# Altium footprint library CO2_Metar_PCB.PcbLib: 15 footprints
Each footprint in its own frame and in the unit in brackets; x right, y up, seen from the top. Pads: shape width x height; smd on the part's side, far side on the other; paste and mask are expansions set on the pad; w line width, h text height; cw(c..) or ccw(c..) is an arc to the next point about the centre after c.
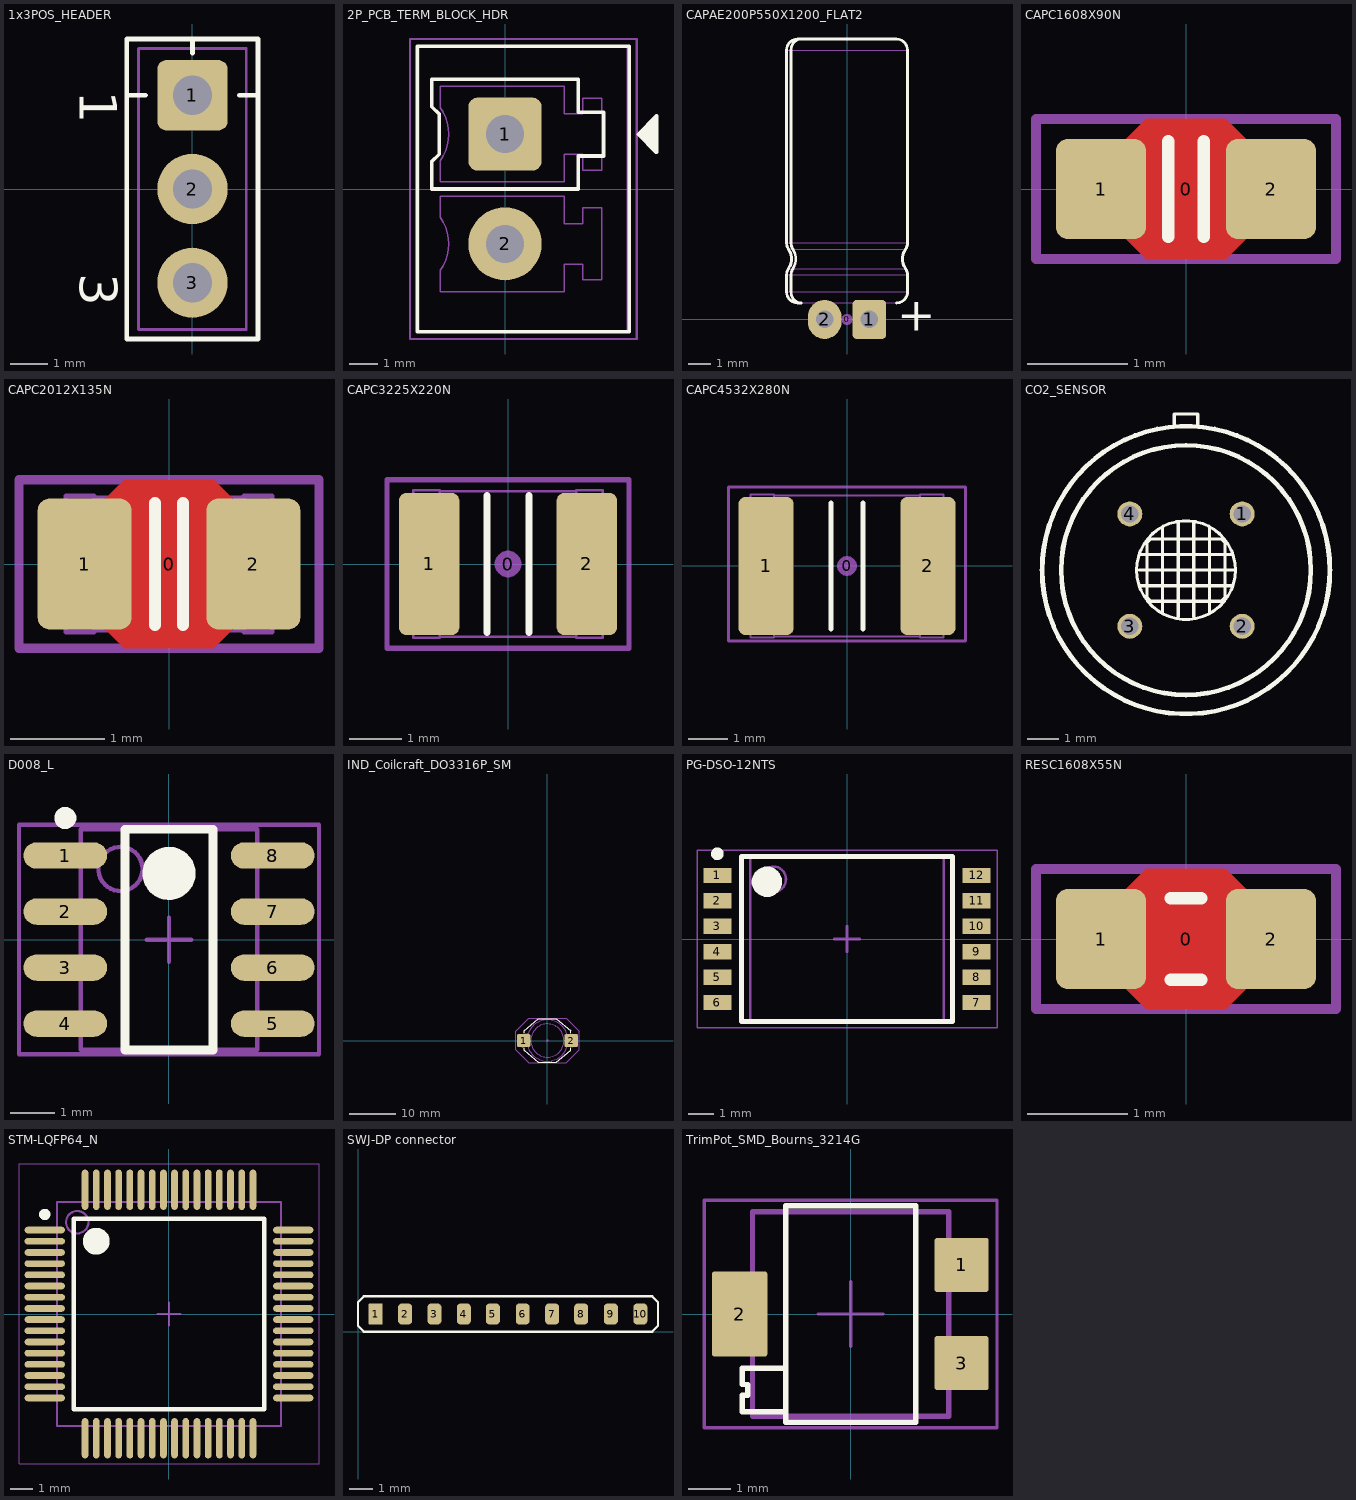
[diagram p0: the footprints below, top view; thin cyan lines are the x and y axes]

## 1x3POS_HEADER [mil]
pads (3):
  rrect25% 75x75 hole 42: 1(0,100)
  round 75 hole 42: 2(0,0) 3(0,-100)
Top Overlay:
  lines w5: -70,100 -50,100 ; 0,145 0,160 ; 50,100 70,100 ; -70,-160 -70,160 70,160 70,-160 -70,-160
  text "3" at -120,-90 h40
  text "1" at -120,105 h40
Mechanical 13:
  lines w3: -57.47,-150 -57.47,150 57.49,150 57.49,-150 -57.47,-150
3D body "PinHeaderX3.stp": height 335.04, standoff -144.88, extent -57.47,-150 57.49,150

## 2P_PCB_TERM_BLOCK_HDR [mil]
pads (2):
  rrect25% 100x100 hole 52: 1(0,75)
  round 100 hole 52: 2(0,-75)
Top Overlay:
  region: 182,75 207,100 207,50
  lines w5: -120,-195.08 -120,195.08 ; -120,-195 170,-195 ; -120,195 170,195 ; 170,-195.08 170,195.08 ; -100,0 -100,37.5 -90,47.5 -90,102.5 -100,112.5 -100,150 100,150 100,105 135,105 135,45 100,45 100,0 -100,0 ; 182,75 207,50 207,100 182,75
Mechanical 13:
  circle w1.97: c0,-75 r35.43
  circle w1.97: c0,75 r35.43
  circle w1.97: c0,75 r43.31
  circle w1.97: c0,-75 r43.31
  lines w1.97: -118.11,-195.08 167.32,-195.08 167.32,195.08 -118.11,195.08 -118.11,-195.08 ; -88.58,-140.16 80.71,-140.16 80.71,-102.56 106.3,-102.56 106.3,-124.21 131.89,-124.21 131.89,-25.79 106.3,-25.79 106.3,-47.44 80.71,-47.44 80.71,-9.84 -88.58,-9.84 -88.58,-38.92 cw(c-137.8,-75) -88.58,-111.08 -88.58,-140.16 ; -88.58,9.84 80.71,9.84 80.71,47.44 106.3,47.44 106.3,25.79 131.89,25.79 131.89,124.21 106.3,124.21 106.3,102.56 80.71,102.56 80.71,140.16 -88.58,140.16 -88.58,111.08 cw(c-137.8,75) -88.58,38.92 -88.58,9.84 ; -15.75,-90.75 -15.75,-59.25 15.75,-59.25 15.75,-90.75 -15.75,-90.75 ; -15.75,59.25 -15.75,90.75 15.75,90.75 15.75,59.25 -15.75,59.25
Mechanical 15:
  lines w3: -130,-205 -130,205 180,205 180,-205 -130,-205
3D body "CONN HEADER TE 2P.STEP": height 362.2, standoff -133.86, extent -118.1,-195.07 167.33,195.08

## CAPAE200P550X1200_FLAT2 [mil]
pads (3):
  round 20 on Mech15: 0(0,0)
  rrect25% 60x70 hole 31.5: 1(40,0)
  oval 60x70 hole 31.5: 2(-40,0)
Top Overlay:
  lines w5: -82.99,29.57 -88.58,29.57 cw(c-88.58,49.25) -108.27,49.25 -108.27,79.64 cw(c-88.58,79.64) -104.76,90.86 ccw(c-129.92,108.31) -104.76,125.76 cw(c-88.58,136.98) -108.27,136.98 -108.27,482.32 cw(c-88.58,482.32) -88.58,502.01 -82.99,502.01 ; -81.84,29.53 cw(c-81.06,48.53) -100.06,49.25 -100.06,79.64 cw(c-79.2,79.7) -96.81,90.88 ccw(c-124.34,108.31) -96.81,125.74 cw(c-79.2,136.92) -100.06,136.98 -100.06,482.32 cw(c-81.06,483.05) -81.84,502.05 88.58,502.05 cw(c88.58,482.32) 108.31,482.32 108.31,136.98 cw(c88.58,136.98) 104.79,125.74 ccw(c129.92,108.31) 104.79,90.88 cw(c88.58,79.64) 108.31,79.64 108.31,49.25 cw(c88.58,49.25) 88.58,29.53
  text "+" at 90,-20 h60
Mechanical 13:
  lines w1.97: -82.99,29.57 -88.58,29.57 cw(c-88.58,49.25) -108.27,49.25 ; -82.99,502.01 -88.58,502.01 ccw(c-88.58,482.32) -108.27,482.32 ; -49.21,19.68 -29.53,19.68 ; -49.21,29.53 -49.21,0 ccw(c-39.37,0) -29.53,0 -29.53,29.53 ; 29.53,19.68 49.21,19.68 ; 29.53,29.53 29.53,0 ccw(c39.37,0) 49.21,0 49.21,29.53 ; -108.27,49.25 108.31,49.25 ; -108.27,49.25 -108.27,79.64 ; -108.27,79.64 cw(c-88.58,79.64) -104.76,90.86 ; -108.27,79.64 108.31,79.64 ; -108.27,136.98 ccw(c-88.58,136.98) -104.76,125.76 ; -108.27,136.98 108.31,136.98 ; -108.27,136.98 -108.27,482.32 ; -108.27,482.32 108.31,482.32 ; -104.76,90.86 ccw(c-129.92,108.31) -104.76,125.76 ; -104.76,90.86 -96.81,90.88 ; -104.76,125.76 -96.81,125.74 ; -96.81,90.88 ccw(c-124.34,108.31) -96.81,125.74 ; -96.81,90.88 ccw(c-79.2,79.7) -100.06,79.64 -100.06,49.25 ccw(c-81.06,48.53) -81.84,29.53 88.58,29.53 ccw(c88.58,49.25) 108.31,49.25 ; -96.81,90.88 104.79,90.88 ; -96.81,125.74 cw(c-79.2,136.92) -100.06,136.98 -100.06,482.32 cw(c-81.06,483.05) -81.84,502.05 88.58,502.05 cw(c88.58,482.32) 108.31,482.32 ; -96.81,125.74 104.79,125.74 ; 104.79,90.88 cw(c129.92,108.31) 104.79,125.74 ; 104.79,90.88 cw(c88.58,79.64) 108.31,79.64 ; 104.79,125.74 ccw(c88.58,136.98) 108.31,136.98 ; 108.31,49.25 108.31,79.64 ; 108.31,136.98 108.31,482.32
3D body "CAPAE200P550X1200_FLAT2.STEP": height 215.69, standoff -70, extent -107.33,-9.82 107.39,502.05

## CAPC1608X90N [mm]
pads (3):
  round 0.254 on Mech15: 0(0,0)
  rrect25% 0.9x1 smd: 1(-0.85,0) 2(0.85,0)
Top Layer:
  pour cut-out: -0.6,0.5 -0.4,0.7 0.4,0.7 0.6,0.5 0.6,-0.5 0.4,-0.7 -0.4,-0.7 -0.6,-0.5
Top Overlay:
  lines w0.127: -0.178,-0.476 -0.178,0.476 ; 0.178,-0.476 0.178,0.476
Mechanical 13:
  lines w0.05: -0.55,-0.43 0.55,-0.43 ; -0.55,0.43 0.55,0.43 ; -0.85,-0.45 -0.85,0.45 -0.55,0.45 -0.55,-0.45 -0.85,-0.45 ; 0.55,-0.45 0.55,0.45 0.85,0.45 0.85,-0.45 0.55,-0.45
Mechanical 15:
  lines w0.1: -1.5,-0.7 -1.5,0.7 1.5,0.7 1.5,-0.7 -1.5,-0.7
3D body "CAP_0603.STEP": height 0.89, standoff -0.01, extent -0.85,-0.45 0.85,0.45

## CAPC2012X135N [mm]
pads (3):
  round 0.254 on Mech15: 0(0,0)
  rrect25% 1x1.4 smd: 1(-0.9,0) 2(0.9,0)
Top Layer:
  pour cut-out: -0.675,0.7 -0.475,0.9 0.475,0.9 0.675,0.7 0.675,-0.7 0.475,-0.9 -0.475,-0.9 -0.675,-0.7
Top Overlay:
  lines w0.127: -0.15,-0.651 -0.15,0.651 ; 0.15,-0.651 0.15,0.651
Mechanical 13:
  lines w0.05: -0.8,-0.705 0.8,-0.705 ; -0.8,0.705 0.8,0.705 ; -1.1,-0.725 -1.1,0.725 -0.8,0.725 -0.8,-0.725 -1.1,-0.725 ; 0.8,-0.725 1.1,-0.725 1.1,0.725 0.8,0.725 0.8,-0.725
Mechanical 15:
  lines w0.1: -1.6,-0.9 -1.6,0.9 1.6,0.9 1.6,-0.9 -1.6,-0.9
3D body "CAP_0805.STEP": height 1.34, standoff -0.01, extent -1.1,-0.725 1.1,0.725

## CAPC3225X220N [mm]
pads (3):
  round 0.508 on Mech15: 0(0,0)
  rrect25% 1.15x2.7 smd: 1(-1.5,0) 2(1.5,0)
Top Overlay:
  lines w0.127: -0.4,-1.3 -0.4,1.3 ; 0.4,-1.3 0.4,1.3
Mechanical 13:
  lines w0.05: -1.3,-1.38 1.3,-1.38 ; -1.3,1.38 1.3,1.38 ; -1.8,-1.4 -1.3,-1.4 -1.3,1.4 -1.8,1.4 -1.8,-1.4 ; 1.3,-1.4 1.3,1.4 1.8,1.4 1.8,-1.4 1.3,-1.4
Mechanical 15:
  lines w0.1: -2.3,-1.6 -2.3,1.6 2.3,1.6 2.3,-1.6 -2.3,-1.6
3D body "CAP_1210.STEP": height 2.19, standoff -0.01, extent -1.8,-1.4 1.8,1.4

## CAPC4532X280N [mm]
pads (3):
  round 0.508 on Mech15: 0(0,0)
  rrect25% 1.4x3.5 smd: 1(-2.05,0) 2(2.05,0)
Top Overlay:
  lines w0.127: -0.4,-1.6 -0.4,1.6 ; 0.4,-1.6 0.4,1.6
Mechanical 13:
  lines w0.05: -1.85,-1.791 1.85,-1.791 ; -1.85,1.791 1.85,1.791 ; -2.45,-1.811 -1.85,-1.811 -1.85,1.811 -2.45,1.811 -2.45,-1.811 ; 1.85,-1.811 1.85,1.811 2.45,1.811 2.45,-1.811 1.85,-1.811
Mechanical 15:
  lines w0.076: -3,-1.9 3,-1.9 3,2 -3,2 -3,-1.9
3D body "CAP_1812.STEP": height 2.79, standoff -0.01, extent -2.45,-1.8 2.45,1.8

## CO2_SENSOR [mm]
pads (4):
  round 0.8 hole 0.55: 1(7.971,6.97) 2(7.971,3.37) 3(4.371,3.37) 4(4.371,6.97)
Top Overlay:
  circle w0.15: c6.171,5.17 r4
  circle w0.15: c6.171,5.17 r4.61
  circle w0.1: c6.171,5.17 r1.581
  lines w0.1: 4.671,4.67 7.671,4.67 ; 4.671,5.17 7.752,5.17 ; 4.671,5.67 7.671,5.67 ; 5.421,3.795 5.421,6.545 ; 5.796,9.795 5.796,10.17 6.546,10.17 6.546,9.795 ; 5.921,3.67 5.921,6.67 ; 6.421,3.67 6.421,6.67 ; 6.921,3.795 6.921,6.545 ; 4.921,4.295 5.046,4.17 7.296,4.17 7.421,4.295 7.421,6.045 7.296,6.17 5.046,6.17 4.921,6.045 4.921,4.295
3D body: height 12.46, standoff 12.45, extent 3.471,2.47 8.871,7.87
3D body: height 0.7, standoff 0.05, extent 1.571,0.57 10.771,9.77
3D body: height 0.55, standoff 0.05, extent 5.796,9.77 6.546,10.17
3D body: height 12.45, standoff 0.05, extent 2.121,1.123 10.221,9.217

## D008_L [mm]
pads (8):
  oval 1.9x0.6 smd: 1(-2.35,1.905) 2(-2.35,0.635) 3(-2.35,-0.635) 4(-2.35,-1.905) 5(2.35,-1.905) 6(2.35,-0.635) 7(2.35,0.635) 8(2.35,1.905)
Top Overlay:
  circle w0.6: c0,1.5 r0.3
  circle w0.25: c-2.35,2.755 r0.125
  lines w0.2: -1,-2.5 1,-2.5 1,2.5 -1,2.5 -1,-2.5
Mechanical 13:
  circle w0.1: c-1.1,1.6 r0.5
  lines w0.1: -2,-2.5 2,-2.5 2,2.5 -2,2.5 -2,-2.5
Mechanical 15:
  lines w0.1: -0.5,0 0.5,0 ; 0,-0.5 0,0.5 ; -3.4,-2.6 3.4,-2.6 3.4,2.6 -3.4,2.6 -3.4,-2.6
3D body: height 1.75, standoff 0, extent -2,-2.5 2,2.5

## IND_Coilcraft_DO3316P_SM [mil]
pads (3):
  round 20 on Mech15: 0(0,0)
  rrect25% 115x110 smd: 1(-202.5,0) 2(202.5,0)
Top Overlay:
  lines w6: -200,-65 -200,-82.84 -76.63,-185 76.63,-185 200,-82.84 200,-65 ; -200,65 -200,82.84 -76.63,185 76.63,185 200,82.84 200,65
Mechanical 13:
  drawing of 272 lines, arcs and shapes, not listed
Mechanical 15:
  lines w3: -270,-80 -160,-190 160,-190 270,-80 270,80 160,190 -160,190 -270,80 -270,-80
3D body "Pulse Inductor RR.STEP": height 172.5, standoff 0, extent -255.38,-185 255.2,185

## PG-DSO-12NTS [mm]
pads (12):
  rect 1.1x0.6 smd: 1(-5.1,2.5) 2(-5.1,1.5) 3(-5.1,0.5) 4(-5.1,-0.5) 5(-5.1,-1.5) 6(-5.1,-2.5) 7(5.1,-2.5) 8(5.1,-1.5) 9(5.1,-0.5) 10(5.1,0.5) 11(5.1,1.5) 12(5.1,2.5)
Top Overlay:
  circle w0.6: c-3.15,2.25 r0.3
  circle w0.25: c-5.1,3.35 r0.125
  lines w0.2: -4.15,-3.25 4.15,-3.25 4.15,3.25 -4.15,3.25 -4.15,-3.25
Mechanical 13:
  circle w0.1: c-2.9,2.35 r0.5
  lines w0.1: -3.8,-3.25 3.8,-3.25 3.8,3.25 -3.8,3.25 -3.8,-3.25
Mechanical 15:
  lines w0.05: -5.9,-3.5 5.9,-3.5 5.9,3.5 -5.9,3.5 -5.9,-3.5
  lines w0.1: -0.5,0 0.5,0 ; 0,-0.5 0,0.5
3D body "PG-DSO-12NTS.step": height 2.6, standoff 0, extent -5.15,-3.25 5.15,3.25

## RESC1608X55N [mm]
pads (3):
  round 0.254 on Mech15: 0(0,0)
  rrect25% 0.9x1 smd: 1(-0.85,0) 2(0.85,0)
Top Layer:
  pour cut-out: -0.6,0.5 -0.4,0.7 0.4,0.7 0.6,0.5 0.6,-0.5 0.4,-0.7 -0.4,-0.7 -0.6,-0.5
Top Overlay:
  lines w0.127: -0.152,-0.406 0.152,-0.406 ; -0.152,0.406 0.152,0.406
Mechanical 13:
  lines w0.05: -0.875,-0.475 -0.875,0.475 -0.475,0.475 -0.475,-0.475 -0.875,-0.475 ; -0.475,-0.474 0.475,-0.474 -0.475,-0.474 ; -0.475,0.474 0.475,0.474 -0.475,0.474 ; 0.475,-0.475 0.875,-0.475 0.875,0.475 0.475,0.475 0.475,-0.475
Mechanical 15:
  lines w0.1: -1.5,-0.7 1.5,-0.7 1.5,0.7 -1.5,0.7 -1.5,-0.7
3D body "RES 0603 (1608 metric).STEP": height 0.54, standoff -0.01, extent -0.875,-0.475 0.875,0.475

## STM-LQFP64_N [mm]
pads (64):
  oval 1.8x0.3 smd: 1(-5.55,3.75) 2(-5.55,3.25) 3(-5.55,2.75) 4(-5.55,2.25) 5(-5.55,1.75) 6(-5.55,1.25) 7(-5.55,0.75) 8(-5.55,0.25) 9(-5.55,-0.25) 10(-5.55,-0.75) 11(-5.55,-1.25) 12(-5.55,-1.75) 13(-5.55,-2.25) 14(-5.55,-2.75) 15(-5.55,-3.25) 16(-5.55,-3.75) 33(5.55,-3.75) 34(5.55,-3.25) 35(5.55,-2.75) 36(5.55,-2.25) 37(5.55,-1.75) 38(5.55,-1.25) 39(5.55,-0.75) 40(5.55,-0.25) 41(5.55,0.25) 42(5.55,0.75) 43(5.55,1.25) 44(5.55,1.75) 45(5.55,2.25) 46(5.55,2.75) 47(5.55,3.25) 48(5.55,3.75)
  oval 0.3x1.8 smd: 17(-3.75,-5.55) 18(-3.25,-5.55) 19(-2.75,-5.55) 20(-2.25,-5.55) 21(-1.75,-5.55) 22(-1.25,-5.55) 23(-0.75,-5.55) 24(-0.25,-5.55) 25(0.25,-5.55) 26(0.75,-5.55) 27(1.25,-5.55) 28(1.75,-5.55) 29(2.25,-5.55) 30(2.75,-5.55) 31(3.25,-5.55) 32(3.75,-5.55) 49(3.75,5.55) 50(3.25,5.55) 51(2.75,5.55) 52(2.25,5.55) 53(1.75,5.55) 54(1.25,5.55) 55(0.75,5.55) 56(0.25,5.55) 57(-0.25,5.55) 58(-0.75,5.55) 59(-1.25,5.55) 60(-1.75,5.55) 61(-2.25,5.55) 62(-2.75,5.55) 63(-3.25,5.55) 64(-3.75,5.55)
Top Overlay:
  circle w0.6: c-3.25,3.25 r0.3
  circle w0.25: c-5.55,4.45 r0.125
  lines w0.2: -4.25,-4.25 4.25,-4.25 4.25,4.25 -4.25,4.25 -4.25,-4.25
Mechanical 13:
  circle w0.1: c-4.1,4.1 r0.5
  lines w0.1: -5,-5 5,-5 5,5 -5,5 -5,-5
Mechanical 15:
  lines w0.05: -6.7,-6.7 6.7,-6.7 6.7,6.7 -6.7,6.7 -6.7,-6.7
  lines w0.1: -0.5,0 0.5,0 ; 0,-0.5 0,0.5
3D body: height 1.6, standoff 0.05, extent -5,-5 5,5

## SWJ-DP connector [mm]
pads (10):
  rrect8% 0.6x0.9 smd: 1(0.762,0.762)
  rrect50% 0.6x0.9 smd: 2(2.032,0.762) 3(3.302,0.762) 4(4.572,0.762) 5(5.826,0.762) 6(7.112,0.762) 7(8.382,0.762) 8(9.636,0.762) 9(10.922,0.762) 10(12.192,0.762)
Top Overlay:
  lines w0.1: 0,0.254 0.254,0 12.7,0 12.954,0.254 12.954,1.27 12.7,1.524 0.254,1.524 0,1.27 0,0.254

## TrimPot_SMD_Bourns_3214G [mm]
pads (3):
  rrect10% 1.27x1.27 smd: 1(2.6,1.15) 3(2.6,-1.15)
  rrect10% 1.3x2 smd: 2(-2.6,0)
Top Overlay:
  lines w0.127: -1.524,-2.286 -2.54,-2.286 -2.54,-1.905 -2.413,-1.905 -2.413,-1.651 -2.54,-1.651 -2.54,-1.27 -1.524,-1.27 ; -1.524,-2.54 1.524,-2.54 1.524,2.54 -1.524,2.54 -1.524,-2.54
Mechanical 13:
  lines w0.127: -2.3,-2.4 -2.3,2.4 2.3,2.4 2.3,-2.4 -2.3,-2.4
Mechanical 15:
  lines w0.076: -0.762,0 0.762,0 ; 0,-0.762 0,0.762 ; -3.429,-2.667 -3.429,2.667 3.429,2.667 3.429,-2.667 -3.429,-2.667
3D body "Trimpot 3214G.stp": height 3.9, standoff 0.2, extent -2.3,-2.4 2.3,2.4
3D body: height 0.2, standoff 0, extent -3,-0.65 -1.6,0.65
3D body: height 0.2, standoff 0, extent 1.6,0.7 3,1.6
3D body: height 0.2, standoff 0, extent 1.6,-1.6 3,-0.7
3D body: height 3.9, standoff 3.9, extent -2.3,-2.4 2.3,2.4